# Altium integrated library INTERFACE-MCP2515T-I_SO_SOIC18_.IntLib: 1 symbol
Pins are listed as number, name and electrical type; pins without a type are passive.

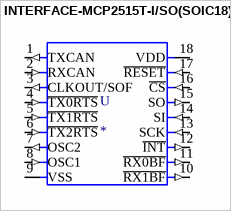
[diagram p0: symbol INTERFACE-MCP2515T-I/SO(SOIC18)]

## INTERFACE-MCP2515T-I/SO(SOIC18)
designator U
IC CAN CONTROLLER W/SPI 18SOIC; MF: Microchip Technology; MP: MCP2515T-I/SO; SnapEDA_Link: https://www.snapeda.com/parts/MCP2515T-I/SO/Atmel/view-part/4793276/?ref=snap; Price: None; Package: None; Value: *; Availability: Unavailable
footprint SOIC18-1.27-11.5X7.5MM
pins: 1 TXCAN (out), 2 RXCAN (in), 3 CLKOUT/SOF (out), 4 ~{TX0RTS} (in), 5 ~{TX1RTS} (in), 6 ~{TX2RTS} (in), 7 OSC2 (out), 8 OSC1 (in), 9 VSS (power), 10 ~{RX1BF} (out), 11 ~{RX0BF} (out), 12 ~{INT} (out), 13 SCK (in), 14 SI (in), 15 SO (out), 16 ~{CS} (in), 17 ~{RESET} (in), 18 VDD (power)